# Altium schematic symbol library SCH - POWER - SWITCHMODE - TI TPS51125ARGE.SchLib: 1 symbol
Pins are listed as number, name and electrical type; pins without a type are passive.

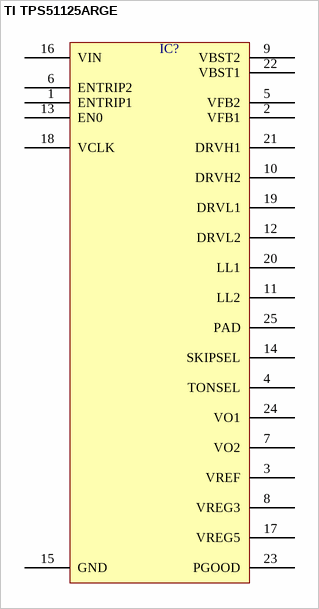
[diagram p0: symbol TI TPS51125ARGE]

## TI TPS51125ARGE
designator IC?  (value not drawn)
pins: 1 ENTRIP1, 2 VFB1, 3 VREF, 4 TONSEL, 5 VFB2, 6 ENTRIP2, 7 VO2, 8 VREG3, 9 VBST2, 10 DRVH2, 11 LL2, 12 DRVL2, 13 EN0, 14 SKIPSEL, 15 GND, 16 VIN, 17 VREG5, 18 VCLK, 19 DRVL1, 20 LL1, 21 DRVH1, 22 VBST1, 23 PGOOD, 24 VO1, 25 PAD